# Altium schematic symbol library Custom Components.SchLib: 25 symbols
Pins are listed as number, name and electrical type; pins without a type are passive.

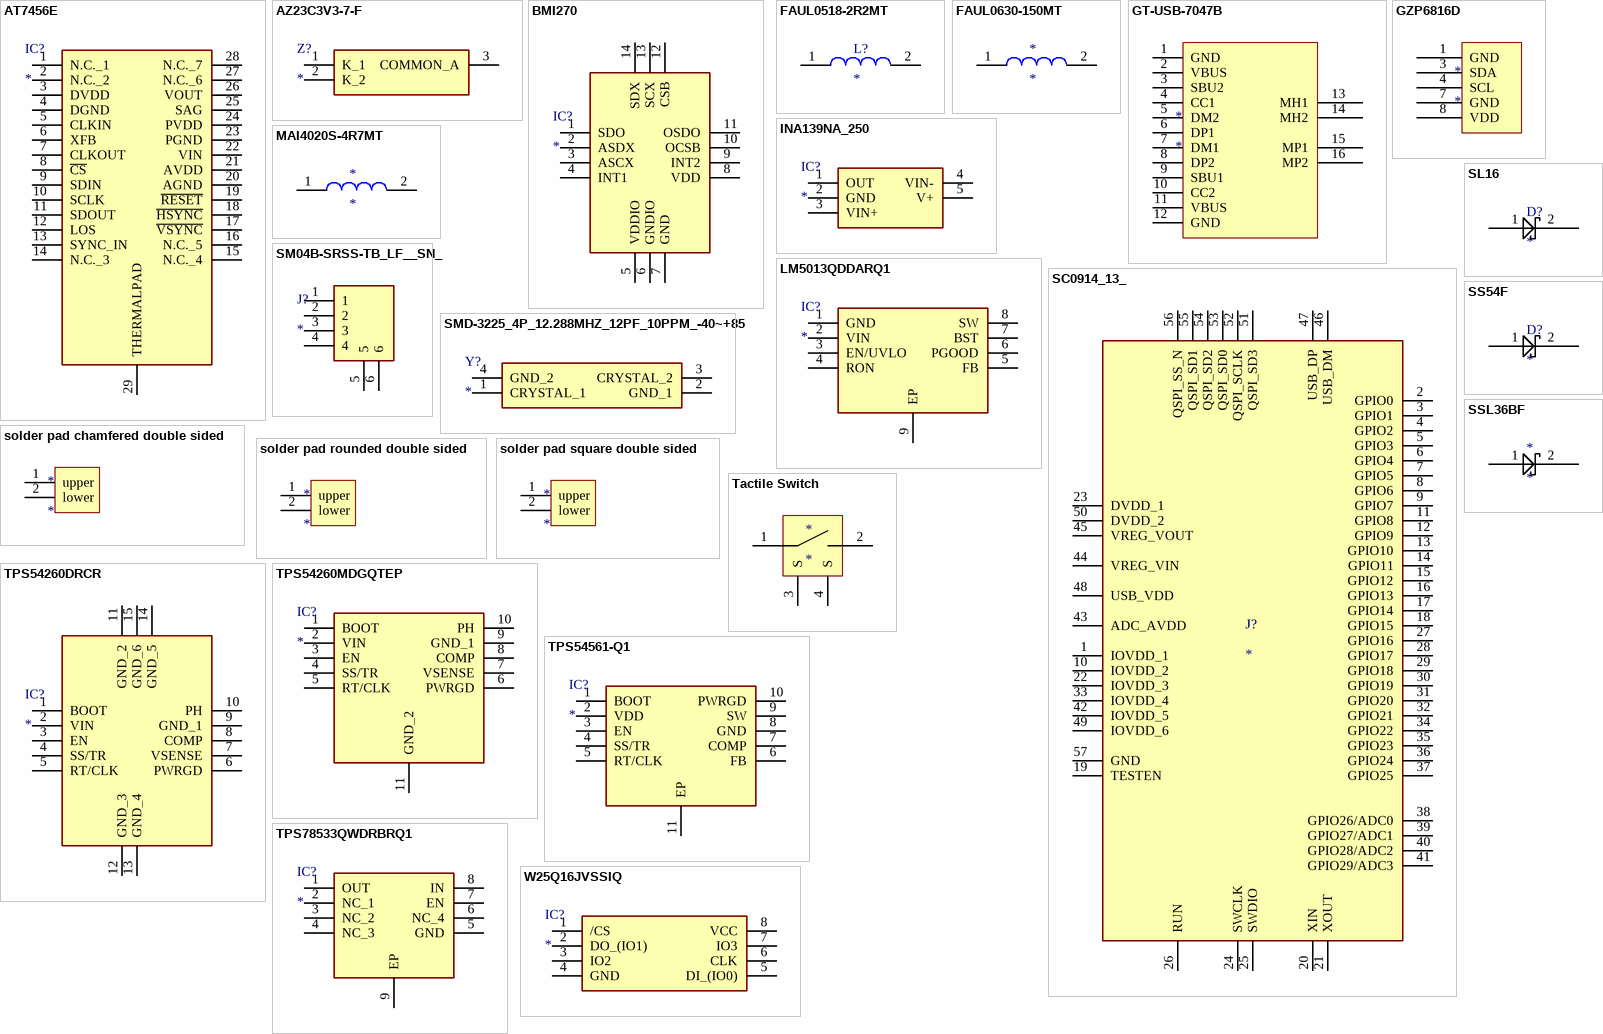
[diagram p0: symbols AT7456E to W25Q16JVSSIQ]

## AT7456E
designator IC?
Integrated Circuit; Manufacturer_Name: ICOF; Manufacturer_Part_Number: AT7456E; Datasheet Link: https://datasheet.lcsc.com/szlcsc/ZHONGKEWEI-AT7456E_C82351.pdf; Height: 1.2mm
footprint SOP65P640X120-29N
pins: 1 N.C._1, 2 N.C._2, 3 DVDD, 4 DGND, 5 CLKIN, 6 XFB, 7 CLKOUT, 8 ~{CS}, 9 SDIN, 10 SCLK, 11 SDOUT, 12 LOS, 13 SYNC_IN, 14 N.C._3, 15 N.C._4, 16 N.C._5, 17 ~{VSYNC}, 18 ~{HSYNC}, 19 ~{RESET}, 20 AGND, 21 AVDD, 22 VIN, 23 PGND, 24 PVDD, 25 SAG, 26 VOUT, 27 N.C._6, 28 N.C._7, 29 THERMALPAD

## AZ23C3V3-7-F
designator Z?
Zener Diode; Manufacturer_Name: Diodes Inc.; Manufacturer_Part_Number: AZ23C3V3-7-F; Description: Diode Zener 3.3V 5% 300mW SOT23 Diodes Inc AZ23C3V3-7-F Dual Zener Diode; Datasheet Link: http://uk.rs-online.com/web/p/products/1220006; Height: 1.2mm; Mouser Part Number: 621-AZ23C3V3-7-F; Mouser Price/Stock: https://www.mouser.co.uk/ProductDetail/Diodes-Incorporated/AZ23C3V3-7-F?qs=rGAXPo9uwV1wE7LTrP7l4Q%3D%3D; Arrow Part Number: AZ23C3V3-7-F; Arrow Price/Stock: https://www.arrow.com/en/products/az23c3v3-7-f/diodes-incorporated
footprint SOT96P240X120-3N
pins: 1 K_1, 2 K_2, 3 COMMON_A

## BMI270
designator IC?
Integrated Circuit; Manufacturer_Name: BOSCH; Manufacturer_Part_Number: BMI270; Datasheet Link: https://www.mouser.de/datasheet/2/783/BST-BMI270-FL000-1530947.pdf; Height: 0.87mm; Mouser Part Number: 262-BMI270; Mouser Price/Stock: https://www.mouser.co.uk/ProductDetail/Bosch-Sensortec/BMI270?qs=u16ybLDytRYIj%252BjQEee88A%3D%3D; Arrow Part Number: BMI270; Arrow Price/Stock: https://www.arrow.com/en/products/bmi270/bosch?region=nac
footprint QFN50P300X250X87-14N
pins: 1 SDO, 2 ASDX, 3 ASCX, 4 INT1, 5 VDDIO, 6 GNDIO, 7 GND, 8 VDD, 9 INT2, 10 OCSB, 11 OSDO, 12 CSB, 13 SCX, 14 SDX

## FAUL0518-2R2MT
designator L?
footprint FAUL0518-2R2MT
pins: 1, 2

## FAUL0630-150MT
designator *
footprint FAUL0630-150MT
pins: 1, 2

## GT-USB-7047B
designator *
footprint GT-USB-7047B
pins: 1 GND, 2 VBUS, 3 SBU2, 4 CC1, 5 DM2, 6 DP1, 7 DM1, 8 DP2, 9 SBU1, 10 CC2, 11 VBUS, 12 GND, 13 MH1, 14 MH2, 15 MP1, 16 MP2

## GZP6816D
designator *
footprint GZP6816D
pins: 1 GND, 3 SDA, 4 SCL, 7 GND, 8 VDD

## INA139NA_250
designator IC?
Integrated Circuit; Manufacturer_Name: Texas Instruments; Manufacturer_Part_Number: INA139NA/250; Datasheet Link: http://www.ti.com/lit/ds/symlink/ina139.pdf; Height: 1.45mm; Mouser Part Number: 595-INA139NA/250; Mouser Price/Stock: https://www.mouser.co.uk/ProductDetail/Texas-Instruments/INA139NA-250?qs=VBduBm9rCJQSYOixXF05Zw%3D%3D; Arrow Part Number: INA139NA/250; Arrow Price/Stock: https://www.arrow.com/en/products/ina139na250/texas-instruments?region=nac
footprint SOT95P280X145-5N
pins: 1 OUT, 2 GND, 3 VIN+, 4 VIN-, 5 V+

## LM5013QDDARQ1
designator IC?
Integrated Circuit; Manufacturer_Name: Texas Instruments; Manufacturer_Part_Number: LM5013QDDARQ1; Datasheet Link: https://www.ti.com/lit/ds/symlink/lm5013-q1.pdf?ts=1650857966126&ref_url=https%253A%252F%252Fwww.ti.com%252Fproduct%252FLM5013-Q1%253FkeyMatch%253DLM5013QDDARQ1%2526tisearch%253Dsearch-everything%2526usecase%253DOPN; Height: 1.7mm; Mouser Part Number: 595-LM5013QDDARQ1; Mouser Price/Stock: https://www.mouser.co.uk/ProductDetail/Texas-Instruments/LM5013QDDARQ1?qs=t7xnP681wgX%2F7Fftd5oLmw%3D%3D; Arrow Part Number: LM5013QDDARQ1; Arrow Price/Stock: https://www.arrow.com/en/products/lm5013qddarq1/texas-instruments?region=nac
footprint SOIC127P600X170-9N
pins: 1 GND, 2 VIN, 3 EN/UVLO, 4 RON, 5 FB, 6 PGOOD, 7 BST, 8 SW, 9 EP

## MAI4020S-4R7MT
designator *
footprint MAI4020S-4R7MT
pins: 1, 2

## SC0914_13_
designator J?
Connector; Manufacturer_Name: RASPBERRY-PI; Manufacturer_Part_Number: SC0914(13); Datasheet Link: https://datasheets.raspberrypi.com/rp2040/rp2040-datasheet.pdf; Height: 0.9mm; Mouser Part Number: 358-SC091413; Mouser Price/Stock: https://www.mouser.co.uk/ProductDetail/Raspberry-Pi/SC091413?qs=T%252BzbugeAwjhr%252BUbBr3TJcw%3D%3D
footprint SC091413
pins: 1 IOVDD_1, 2 GPIO0, 3 GPIO1, 4 GPIO2, 5 GPIO3, 6 GPIO4, 7 GPIO5, 8 GPIO6, 9 GPIO7, 10 IOVDD_2, 11 GPIO8, 12 GPIO9, 13 GPIO10, 14 GPIO11, 15 GPIO12, 16 GPIO13, 17 GPIO14, 18 GPIO15, 19 TESTEN, 20 XIN, 21 XOUT, 22 IOVDD_3, 23 DVDD_1, 24 SWCLK, 25 SWDIO, 26 RUN, 27 GPIO16, 28 GPIO17, 29 GPIO18, 30 GPIO19, 31 GPIO20, 32 GPIO21, 33 IOVDD_4, 34 GPIO22, 35 GPIO23, 36 GPIO24, 37 GPIO25, 38 GPIO26/ADC0, 39 GPIO27/ADC1, 40 GPIO28/ADC2, 41 GPIO29/ADC3, 42 IOVDD_5, 43 ADC_AVDD, 44 VREG_VIN, 45 VREG_VOUT, 46 USB_DM, 47 USB_DP, 48 USB_VDD, 49 IOVDD_6, 50 DVDD_2, 51 QSPI_SD3, 52 QSPI_SCLK, 53 QSPI_SD0, 54 QSPI_SD2, 55 QSPI_SD1, 56 QSPI_SS_N, 57 GND

## SL16
designator D?
footprint SL16
pins: 1 5, 2 6

## SM04B-SRSS-TB_LF__SN_
designator J?
Connector; Manufacturer_Name: JST (JAPAN SOLDERLESS TERMINALS); Manufacturer_Part_Number: SM04B-SRSS-TB(LF)(SN); Datasheet Link: http://www.jst-mfg.com/product/pdf/eng/eSH.pdf; Arrow Part Number: SM04B-SRSS-TB(LF)(SN); Arrow Price/Stock: https://www.arrow.com/en/products/sm04b-srss-tb-lf-sn/jst-manufacturing?region=europe
footprint SM04B-SRSS-TB(LFSN)
pins: 1, 2, 3, 4, 5, 6

## SMD-3225_4P_12.288MHZ_12PF_10PPM_-40~+85
designator Y?
Crystal or Oscillator; Manufacturer_Name: TAE(Zhejiang Abel Elec); Manufacturer_Part_Number: SMD-3225_4P 12.288MHZ 12PF 10PPM -40~+85¡æ; Datasheet Link: https://datasheet.lcsc.com/szlcsc/1901241506_Zhejiang-Abel-Elec-SMD-3225-4P-12-288MHZ-12PF-10PPM-40-85_C362472.pdf; Height: 0.8mm
footprint SMD3225_4P12288MHZ12PF10PPM4085
pins: 1 CRYSTAL_1, 2 GND_1, 3 CRYSTAL_2, 4 GND_2

## solder pad chamfered double sided
designator *
footprint solder pad double sided chamfered
pins: 1 upper, 2 lower

## solder pad rounded double sided
designator *
footprint solder pad double sided rounded - duplicate
pins: 1 upper, 2 lower

## solder pad square double sided
designator *
footprint solder pad double sided square
pins: 1 upper, 2 lower

## SS54F
designator D?
footprint SS54F
pins: 1 5, 2 6

## SSL36BF
designator *
footprint SSL36BF
pins: 1 5, 2 6

## Tactile Switch
designator *
footprint Tactile Switch
pins: 1, 2, 3 S, 4 S

## TPS54260DRCR
designator IC?
Integrated Circuit; Manufacturer_Name: Texas Instruments; Manufacturer_Part_Number: TPS54260DRCR; Datasheet Link: http://www.ti.com/lit/gpn/TPS54040A; Height: 1mm; Mouser Part Number: 595-TPS54260DRCR; Mouser Price/Stock: https://www.mouser.co.uk/ProductDetail/Texas-Instruments/TPS54260DRCR?qs=O1HRStiETChM7xK%2FSiuP6w%3D%3D; Arrow Part Number: TPS54260DRCR; Arrow Price/Stock: https://www.arrow.com/en/products/tps54260drcr/texas-instruments?region=nac
footprint TPS54040ADRCT
pins: 1 BOOT, 2 VIN, 3 EN, 4 SS/TR, 5 RT/CLK, 6 PWRGD, 7 VSENSE, 8 COMP, 9 GND_1, 10 PH, 11 GND_2, 12 GND_3, 13 GND_4, 14 GND_5, 15 GND_6

## TPS54260MDGQTEP
designator IC?
Integrated Circuit; Manufacturer_Name: Texas Instruments; Manufacturer_Part_Number: TPS54260MDGQTEP; Datasheet Link: http://www.ti.com/lit/gpn/tps54260-ep; Height: 1.1mm; Mouser Part Number: 595-TPS54260MDGQTEP; Mouser Price/Stock: https://www.mouser.co.uk/ProductDetail/Texas-Instruments/TPS54260MDGQTEP?qs=bKNdOM%2FM%252B1mIvjOlj1MFew%3D%3D; Arrow Part Number: TPS54260MDGQTEP; Arrow Price/Stock: https://www.arrow.com/en/products/tps54260mdgqtep/texas-instruments?region=nac
footprint SOP50P490X110-11N
pins: 1 BOOT, 2 VIN, 3 EN, 4 SS/TR, 5 RT/CLK, 6 PWRGD, 7 VSENSE, 8 COMP, 9 GND_1, 10 PH, 11 GND_2

## TPS54561-Q1
designator IC?
Integrated Circuit; Manufacturer_Name: Texas Instruments; Manufacturer_Part_Number: TPS54561-Q1; Datasheet Link: http://www.ti.com/lit/gpn/tps54561-q1; Height: 0.8mm
footprint SON80P400X400X80-11N
pins: 1 BOOT, 2 VDD, 3 EN, 4 SS/TR, 5 RT/CLK, 6 FB, 7 COMP, 8 GND, 9 SW, 10 PWRGD, 11 EP

## TPS78533QWDRBRQ1
designator IC?
Integrated Circuit; Manufacturer_Name: Texas Instruments; Manufacturer_Part_Number: TPS78533QWDRBRQ1; Datasheet Link: https://www.arrow.com/en/products/tps78533qwdrbrq1/texas-instruments?region=nac; Height: 1mm; Mouser Part Number: 595-TPS78533QWDRBRQ1; Mouser Price/Stock: https://www.mouser.co.uk/ProductDetail/Texas-Instruments/TPS78533QWDRBRQ1?qs=iLbezkQI%252BsiNbdqh2Ko9GQ%3D%3D; Arrow Part Number: TPS78533QWDRBRQ1; Arrow Price/Stock: https://www.arrow.com/en/products/tps78533qwdrbrq1/texas-instruments?region=nac
footprint SON65P300X300X100-9N-D
pins: 1 OUT, 2 NC_1, 3 NC_2, 4 NC_3, 5 GND, 6 NC_4, 7 EN, 8 IN, 9 EP

## W25Q16JVSSIQ
designator IC?
Integrated Circuit; Manufacturer_Name: Winbond; Manufacturer_Part_Number: W25Q16JVSSIQ; Datasheet Link: https://www.winbond.com/hq/search-resource-file.jsp?partNo=W25Q16JVSSIQ&type=datasheet; Height: 2.16mm; Mouser Part Number: 454-W25Q16JVSSIQ; Mouser Price/Stock: https://www.mouser.co.uk/ProductDetail/Winbond/W25Q16JVSSIQ?qs=qSfuJ%252Bfl%2Fd46L%2F1QrQC%2Fog%3D%3D; Arrow Part Number: W25Q16JVSSIQ; Arrow Price/Stock: https://www.arrow.com/en/products/w25q16jvssiq/winbond-electronics?region=nac
footprint SOIC127P790X216-8N
pins: 1 /CS, 2 DO_(IO1), 3 IO2, 4 GND, 5 DI_(IO0), 6 CLK, 7 IO3, 8 VCC